# EAGLE library part APDS-9300 (library Indrion_balaji1)
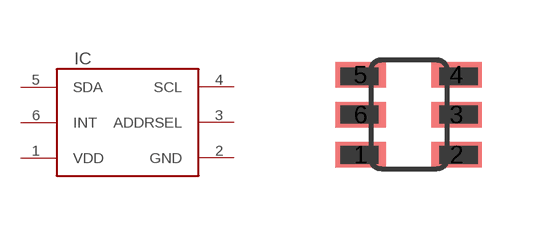
[diagram p1: symbol with the pads of 6-CHIP; footprint 6-CHIP]

Designator prefix IC

## APDS-9300  [6-CHIP]
1  VDD
2  GND
3  ADDRSEL
4  SCL
5  SDA
6  INT

## Footprint 6-CHIP (pad centres in mm)
smd 1.27 x 0.635: 1 -1.15,-0.66; 2 1.25,-0.66; 3 1.25,0.34; 4 1.25,1.34; 5 -1.15,1.34; 6 -1.15,0.34